# Altium integrated library MergenElektronik_Logics_Timers.IntLib: 1 symbol
Pins are listed as number, name and electrical type; pins without a type are passive.

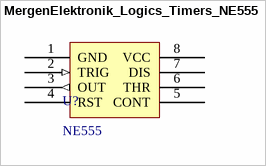
[diagram p0: symbol MergenElektronik_Logics_Timers_NE555]

## MergenElektronik_Logics_Timers_NE555
designator U?, comment NE555
Mergen Elektronik - Logics - Timers - NE555; Manufacturer: Texas Instruments; Manufacturer Number: NE555DR; Model: Timer; Operating Supply Voltage: 4.5V up to 16V; Supplier 1: Mouser; Supplier 2: Digikey; Digi-Key Number: 296-6501-2-ND; Mounting Type: Surface Mount; Value: NE555; Farnell Number: 3121192; Supplier Part Number 1: 595-NE555DR; Supplier Part Number 2: 296-6501-2-ND; Mouser Number: 595-NE555DR; Package: SOIC-8; Temperature: 0°C up to 70°C
footprint MergenElektronik_Logics_Timers_SOIC-8 (SOIC-8)
pins: 1 GND (power), 2 TRIG (in), 3 OUT (out), 4 RST, 5 CONT, 6 THR, 7 DIS, 8 VCC (power)